# EAGLE library part MCP6002T-*/? (library Volks73-MicrochipTechnology)
Op Amp 1 MHz, Low-Power Op Amp Documentation Datasheet <http://ww1.microchip.com/downloads/en/DeviceDoc/21733j.pdf> Development Tools Catalog <http://ww1.microchip.com/downloads/en/DeviceDoc/50001894D.pdf> General Description The Microchip Technology Inc. MCP6001/2/4 family of operational amplifiers (op amps) is specifically designed for general-purpose applications. This family has a 1 MHz Gain Bandwidth Product (GBWP) and 90° phase margin (typical). It also maintains 45° phase margin (typical) with a 500 pF capacitive load. This family operates from a single supply voltage as low as 1.8V, while drawing 100 µA (typical) quiescent current. Additionally, the MCP6001/2/4 supports rail-to-rail input and output swing, with a common mode input voltage range of VDD + 300 mV to VSS – 300 mV. This family of op amps is designed with Microchip’s advanced CMOS process. The MCP6001/2/4 family is available in the industrial and extended temperature ranges, with a power supply range of 1.8V to 6.0V.. Features Available in SC-70-5 and SOT-23-5 packages Gain Bandwidth Product: 1 MHz (typical) Rail-to-Rail Input/Output Supply Voltage: 1.8V to 6.0V Supply Current: IQ = 100 µA (typical) Phase Margin: 90° (typical) Temperature Range: Industrial: -40°C to +85°C Extended: -40°C to +125°C Available in Single, Dual and Quad Packages Applications Automotive Portable Equipment Photodiode Amplifier Analog Filters Notebooks and PDAs Battery-Powered Systems
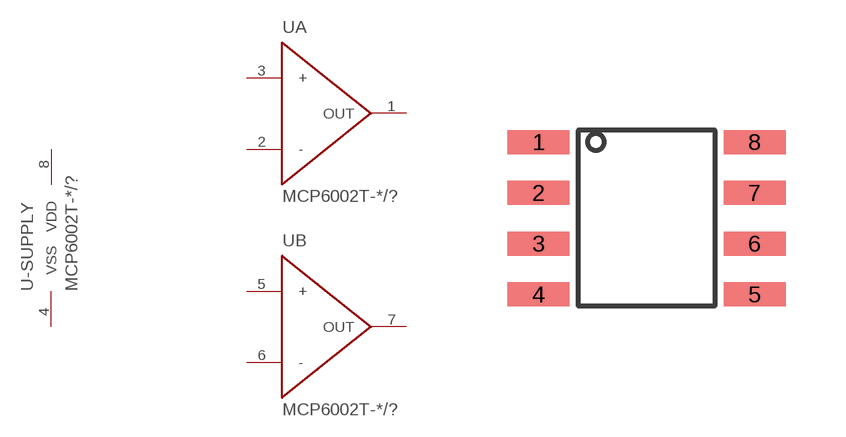
[diagram p1: symbol with the pads of SOIC-8; footprint SOIC-8]

Designator prefix U; gates -SUPPLY=SUPPLY A=OP_AMP B=OP_AMP

## MCP6002T-I/SN (3DB_BANDWIDTH: -; AMPLIFIER_TYPE: General Purpose; CURRENT-INPUT_BIAS: 1pA; CURRENT-OUTPUT: 23mA; CURRENT-SUPPLY: 100uA; DESCRIPTION: IC OPAMP GP 1MHZ RRO 8SOIC; DOCUMENTATION_LINK: <a href="http://ww1.microchip.com/downloads/en/DeviceDoc/21733j.pdf">Datasheet</a>; DOCUMENTATION_URL: http://ww1.microchip.com/downloads/en/DeviceDoc/21733j.pdf; GAIN_BANDWIDTH: 1MHz; MANUFACTURER: Microchip Technology; MOUNTING_TYPE: Surface Mount; NUMBER_OF_CIRCUITS: 2; OPERATING_TEMPERATURE: -40C ~ 85C; OUTPUT_TYPE: Rail-to-Rail; PACKAGE: 8-SOIC; PART_NUMBER: MCP6002T-I/SN; SLEW_RATE: 0.6 V/us; SUPPLIER_DEVICE_PACKAGE: 8-SOIC N; SUPPLIER_ITEM_INFO: http://www.digikey.com/product-detail/en/MCP6002T-I%2FSN/MCP6002T-I%2FSNCT-ND/4307905; SUPPLIER_ITEM_LINK: <a href="http://www.digikey.com/product-detail/en/MCP6002T-I%2FSN/MCP6002T-I%2FSNCT-ND/4307905">Details</a>; SUPPLIER_ITEM_NUMBER: MCP6002T-I/SNCT-ND; SUPPLIER_ITEM_URL: http://www.digikey.com/product-detail/en/MCP6002T-I%2FSN/MCP6002T-I%2FSNCT-ND/4307905; SUPPLIER_LINK: <a href="http://www.digikey.com">Home Page</a>; SUPPLIER_NAME: Digi-Key; SUPPLIER_URL: http://www.digikey.com; VOLTAGE-INPUT_OFFSET: 4.5mV; VOLTAGE-SUPPLY: 1.8V ~ 6V)  [SOIC-8]
1  A:OUT
2  A:-
3  A:+
4  -SUPPLY:VSS  pwr
5  B:+
6  B:-
7  B:OUT
8  -SUPPLY:VDD  pwr

## Footprint SOIC-8 (pad centres in mm)
Small Outline Integrated Circuit (SOIC) 8-Pin
smd 1.55 x 0.6: 1 -2.7,1.905; 2 -2.7,0.635; 3 -2.7,-0.635; 4 -2.7,-1.905; 5 2.7,-1.905; 6 2.7,-0.635; 7 2.7,0.635; 8 2.7,1.905